# EAGLE library part MCP4912 (library me433)
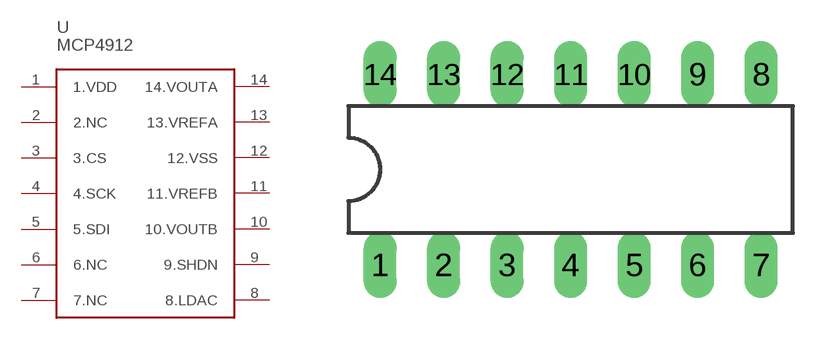
[diagram p2: symbol with the pads of MCP4912; footprint MCP4912]

Designator prefix -

## MCP4912  [MCP4912]
1  1.VDD
2  2.NC
3  3.CS
4  4.SCK
5  5.SDI
6  6.NC
7  7.NC
8  8.LDAC
9  9.SHDN
10  10.VOUTB
11  11.VREFB
12  12.VSS
13  13.VREFA
14  14.VOUTA

## Footprint MCP4912 (pad centres in mm)
drill 0.813 long: 1 -12.7,-3.81; 2 -10.16,-3.81; 3 -7.62,-3.81; 4 -5.08,-3.81; 5 -2.54,-3.81; 6 0,-3.81; 7 2.54,-3.81; 8 2.54,3.81; 9 0,3.81; 10 -2.54,3.81; 11 -5.08,3.81; 12 -7.62,3.81; 13 -10.16,3.81; 14 -12.7,3.81